# EAGLE library part NJG1159PHH (library misc)
RF Amplifier IC Galileo, GLONASS, GPS 1.575GHz, 1.602GHz Module
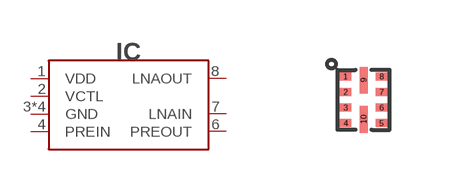
[diagram p96: symbol with the pads of HFFP10-HH; footprint HFFP10-HH]

Designator prefix IC

## NJG1159PHH (DIGIKEY#: NJG1159PHH-TE1CT-ND; MANF: NJR Corporation/NJRC; MANF#: NJG1159PHH-TE1)  [HFFP10-HH]
1  VDD
2  VCTL
3  GND
4  PREIN
5  GND
6  PREOUT
7  LNAIN
8  LNAOUT
9  GND
10  GND

## Footprint HFFP10-HH (pad centres in mm)
smd 0.28 x 0.2: 1 -0.45,0.585; 2 -0.45,0.195; 3 -0.45,-0.195; 4 -0.45,-0.585; 5 0.45,-0.585; 6 0.45,-0.195; 7 0.45,0.195; 8 0.45,0.585
smd 0.2 x 0.67: 9 0,0.49; 10 0,-0.49